# Altium schematic symbol library SlaveLib.SchLib: 15 symbols
Pins are listed as number, name and electrical type; pins without a type are passive.

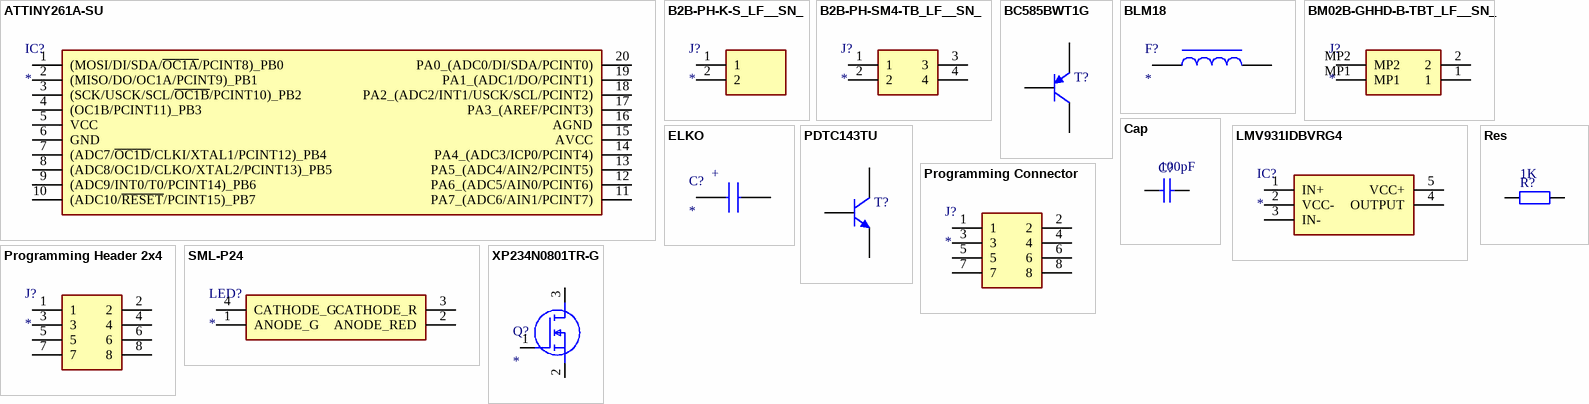
[diagram p0: symbols ATTINY261A-SU to XP234N0801TR-G]

## ATTINY261A-SU
designator IC?
Integrated Circuit; Manufacturer_Name: Microchip; Manufacturer_Part_Number: ATTINY261A-SU; Datasheet Link: http://www.atmel.com/Images/doc8197.pdf; Height: 2.65mm; Mouser Part Number: 556-ATTINY261A-SU; Mouser Price/Stock: https://www.mouser.co.uk/ProductDetail/Microchip-Technology-Atmel/ATTINY261A-SU?qs=LHmEVA8xxfYkt4Dy%2F2AOtw%3D%3D; Arrow Part Number: ATTINY261A-SU; Arrow Price/Stock: https://www.arrow.com/en/products/attiny261a-su/microchip-technology
footprint TSSOP-20T (MO-153 AC)
pins: 1 (MOSI/DI/SDA/~{OC1A}/PCINT8)_PB0, 2 (MISO/DO/OC1A/PCINT9)_PB1, 3 (SCK/USCK/SCL/~{OC1B}/PCINT10)_PB2, 4 (OC1B/PCINT11)_PB3, 5 VCC, 6 GND, 7 (ADC7/~{OC1D}/CLKI/XTAL1/PCINT12)_PB4, 8 (ADC8/OC1D/CLKO/XTAL2/PCINT13)_PB5, 9 (ADC9/INT0/T0/PCINT14)_PB6, 10 (ADC10/~{RESET}/PCINT15)_PB7, 11 PA7_(ADC6/AIN1/PCINT7), 12 PA6_(ADC5/AIN0/PCINT6), 13 PA5_(ADC4/AIN2/PCINT5), 14 PA4_(ADC3/ICP0/PCINT4), 15 AVCC, 16 AGND, 17 PA3_(AREF/PCINT3), 18 PA2_(ADC2/INT1/USCK/SCL/PCINT2), 19 PA1_(ADC1/DO/PCINT1), 20 PA0_(ADC0/DI/SDA/PCINT0)

## B2B-PH-K-S_LF__SN_
designator J?
Connector; Manufacturer_Name: JST (JAPAN SOLDERLESS TERMINALS); Manufacturer_Part_Number: B2B-PH-K-S(LF)(SN); Datasheet Link: https://datasheet.lcsc.com/szlcsc/JST-Sales-America-B2B-PH-K-S-LF-SN_C131337.pdf; Height: 6mm; Arrow Part Number: B2B-PH-K-S(LF)(SN); Arrow Price/Stock: https://www.arrow.com/en/products/b2b-ph-k-s-lf-sn/jst-manufacturing
footprint SHDR2W50P0X200_1X2_590X450X600P
footprint JST-PH
pins: 1, 2

## B2B-PH-SM4-TB_LF__SN_
designator J?
Connector; Manufacturer_Name: JST (JAPAN SOLDERLESS TERMINALS); Manufacturer_Part_Number: B2B-PH-SM4-TB(LF)(SN); Datasheet Link: http://www.jst-mfg.com/product/pdf/eng/ePH.pdf; Height: 6.6mm
footprint B2BPHSM4TBLFSN
footprint JST-PHR
pins: 1, 2, 3, 4

## BC585BWT1G
designator T?
PNP; Published: 8-Jun-2000; LatestRevisionDate: 29-May-2009; LatestRevisionNote: IPC-7351 Footprint Added.; PackageVersion: Aug-1999; PackageReference: SOT-23B; Publisher: Altium Limited; PackageDescription: 3-Pin SOT-23 Package 0.95 mm Pitch, 2.4 mm Lead Span
simulation model PNP
signal-integrity model PNP
footprint SOT-323 (SC-70)
pins: 1 C, 2 B, 3 E

## BLM18
designator F?
Filter
footprint 0603 - BLM18AG102BH1D
pins: 1, 2

## BM02B-GHHD-B-TBT_LF__SN_
designator J?
JST GH 1.25 2pin; Manufacturer_Name: JST (JAPAN SOLDERLESS TERMINALS); Manufacturer_Part_Number: BM02B-GHHD-B-TBT(LF)(SN); Height: 4.05mm
footprint BM02BGHHDBTBTLFSN
footprint JST-GHR
pins: 1, 2, MP1, MP2

## Cap
designator C?  value 100pF
Capacitor; Published: 8-Jun-2000; LatestRevisionDate: 17-Jul-2002; LatestRevisionNote: Re-released for DXP Platform.; PackageReference: RAD-0.3; Publisher: Altium Limited; PackageDescription: Radial Cap, Thru-Hole; 2 Leads; 0.3 in Pin Spacing
simulation model CAP (Capacitor)
signal-integrity model Cap
footprint 0603 (1608 Metric)
pins: 1, 2

## ELKO
designator C?
Capacitor; Manufacturer_Name: NIC Components; Manufacturer_Part_Number: NACE470M6.3V5X5.5TR13F; Datasheet Link: https://docs.rs-online.com/e28d/0900766b80f8cf40.pdf; Height: 5.5mm
footprint CAP 5x5,5
pins: 1 +, 2 -

## LMV931IDBVRG4
designator IC?
Integrated Circuit; Manufacturer_Name: Texas Instruments; Manufacturer_Part_Number: LMV931IDBVRG4; Datasheet Link: http://uk.rs-online.com/web/p/products/6609669; Height: 1.45mm
footprint TSSOP-5N
pins: 1 IN+, 2 VCC-, 3 IN-, 4 OUTPUT, 5 VCC+

## PDTC143TU
designator T?
NPN; Published: 8-Jun-2000; LatestRevisionDate: 17-Jul-2002; LatestRevisionNote: Re-released for DXP Platform.; PackageReference: TO-226-AA; Publisher: Altium Limited; PackageDescription: TO, Flat Index; 3 In-Line, Axial Leads; Body Dia. 4.8mm; Leads 0.55 x 0.51 mm (max); Code_JEDEC: TO-226-AA
simulation model NPN
signal-integrity model NPN
footprint SOT-323 (SC-70)
pins: 1 C, 2 B, 3 E

## Programming Connector
designator J?
Connector; Manufacturer_Name: Mill-Max; Manufacturer_Part_Number: 855-22-008-10-001101; Datasheet Link: https://componentsearchengine.com/Datasheets/2/855-22-008-10-001101.pdf; Height: 6.27mm; Mouser Part Number: 575-855-22-008-10; Mouser Price/Stock: https://www.mouser.co.uk/ProductDetail/Mill-Max/855-22-008-10-001101?qs=mPCt1EmoOdQMosTdRU7w4Q%3D%3D
footprint 8552200810001101
pins: 1, 2, 3, 4, 5, 6, 7, 8

## Programming Header 2x4
designator J?
Connector 1,27mm; Manufacturer_Name: Mill-Max; Manufacturer_Part_Number: 855-22-008-10-001101; Datasheet Link: https://componentsearchengine.com/Datasheets/2/855-22-008-10-001101.pdf; Height: 6.27mm; Mouser Part Number: 575-855-22-008-10; Mouser Price/Stock: https://www.mouser.co.uk/ProductDetail/Mill-Max/855-22-008-10-001101?qs=mPCt1EmoOdQMosTdRU7w4Q%3D%3D
footprint Connector 2x4
footprint Pads 2X4
pins: 1, 2, 3, 4, 5, 6, 7, 8

## Res
designator R?  value 1K
Resistor; Published: 8-Jun-2000; LatestRevisionDate: 17-Jul-2002; LatestRevisionNote: Re-released for DXP Platform.; PackageReference: AXIAL-0.4; Publisher: Altium Limited; PackageDescription: Axial Device, Thru-Hole; 2 Leads; 0.4 in Pin Spacing
simulation model RESISTOR (Resistor)
signal-integrity model SMD 0603
footprint 0603 (1608 Metric)
footprint 1020 (Reversed)
pins: 1, 2

## SML-P24
designator LED?
Dual Color LED; Manufacturer_Name: ROHM Semiconductor; Manufacturer_Part_Number: SML-P24MUWT86R; Datasheet Link: https://www.rohm.com/datasheet/SML-P24MUW(R)/sml-p24muw-e; Height: 0.25mm; Mouser Part Number: 755-SML-P24MUWT86R; Mouser Price/Stock: https://www.mouser.co.uk/ProductDetail/ROHM-Semiconductor/SML-P24MUWT86R?qs=SP2aZMzhwxgr8eZ6SbTI9w%3D%3D
footprint 1010 LED (SMLP24MUWT86R)
pins: 1 ANODE_G, 2 ANODE_RED, 3 CATHODE_R, 4 CATHODE_G

## XP234N0801TR-G
designator Q?
MOSFET (N-Channel); Manufacturer_Name: Torex; Manufacturer_Part_Number: XP234N0801TR-G; Datasheet Link: https://4donline.ihs.com/images/VipMasterIC/IC/TOSL/TOSL-S-A0008892481/TOSL-S-A0008892481-1.pdf?hkey=CECEF36DEECDED6468708AAF2E19C0C6; Height: 1.15mm; Mouser Part Number: 865-XP234N0801TR-G; Mouser Price/Stock: https://www.mouser.co.uk/ProductDetail/Torex-Semiconductor/XP234N0801TR-G?qs=BJlw7L4Cy7%252BWe%2FbHvnXcKQ%3D%3D
footprint SOT-23 (TO-236)
pins: 1 G, 2 S, 3 D